# Altium schematic symbol library H204.SCHLIB: 35 symbols
Pins are listed as number, name and electrical type; pins without a type are passive.

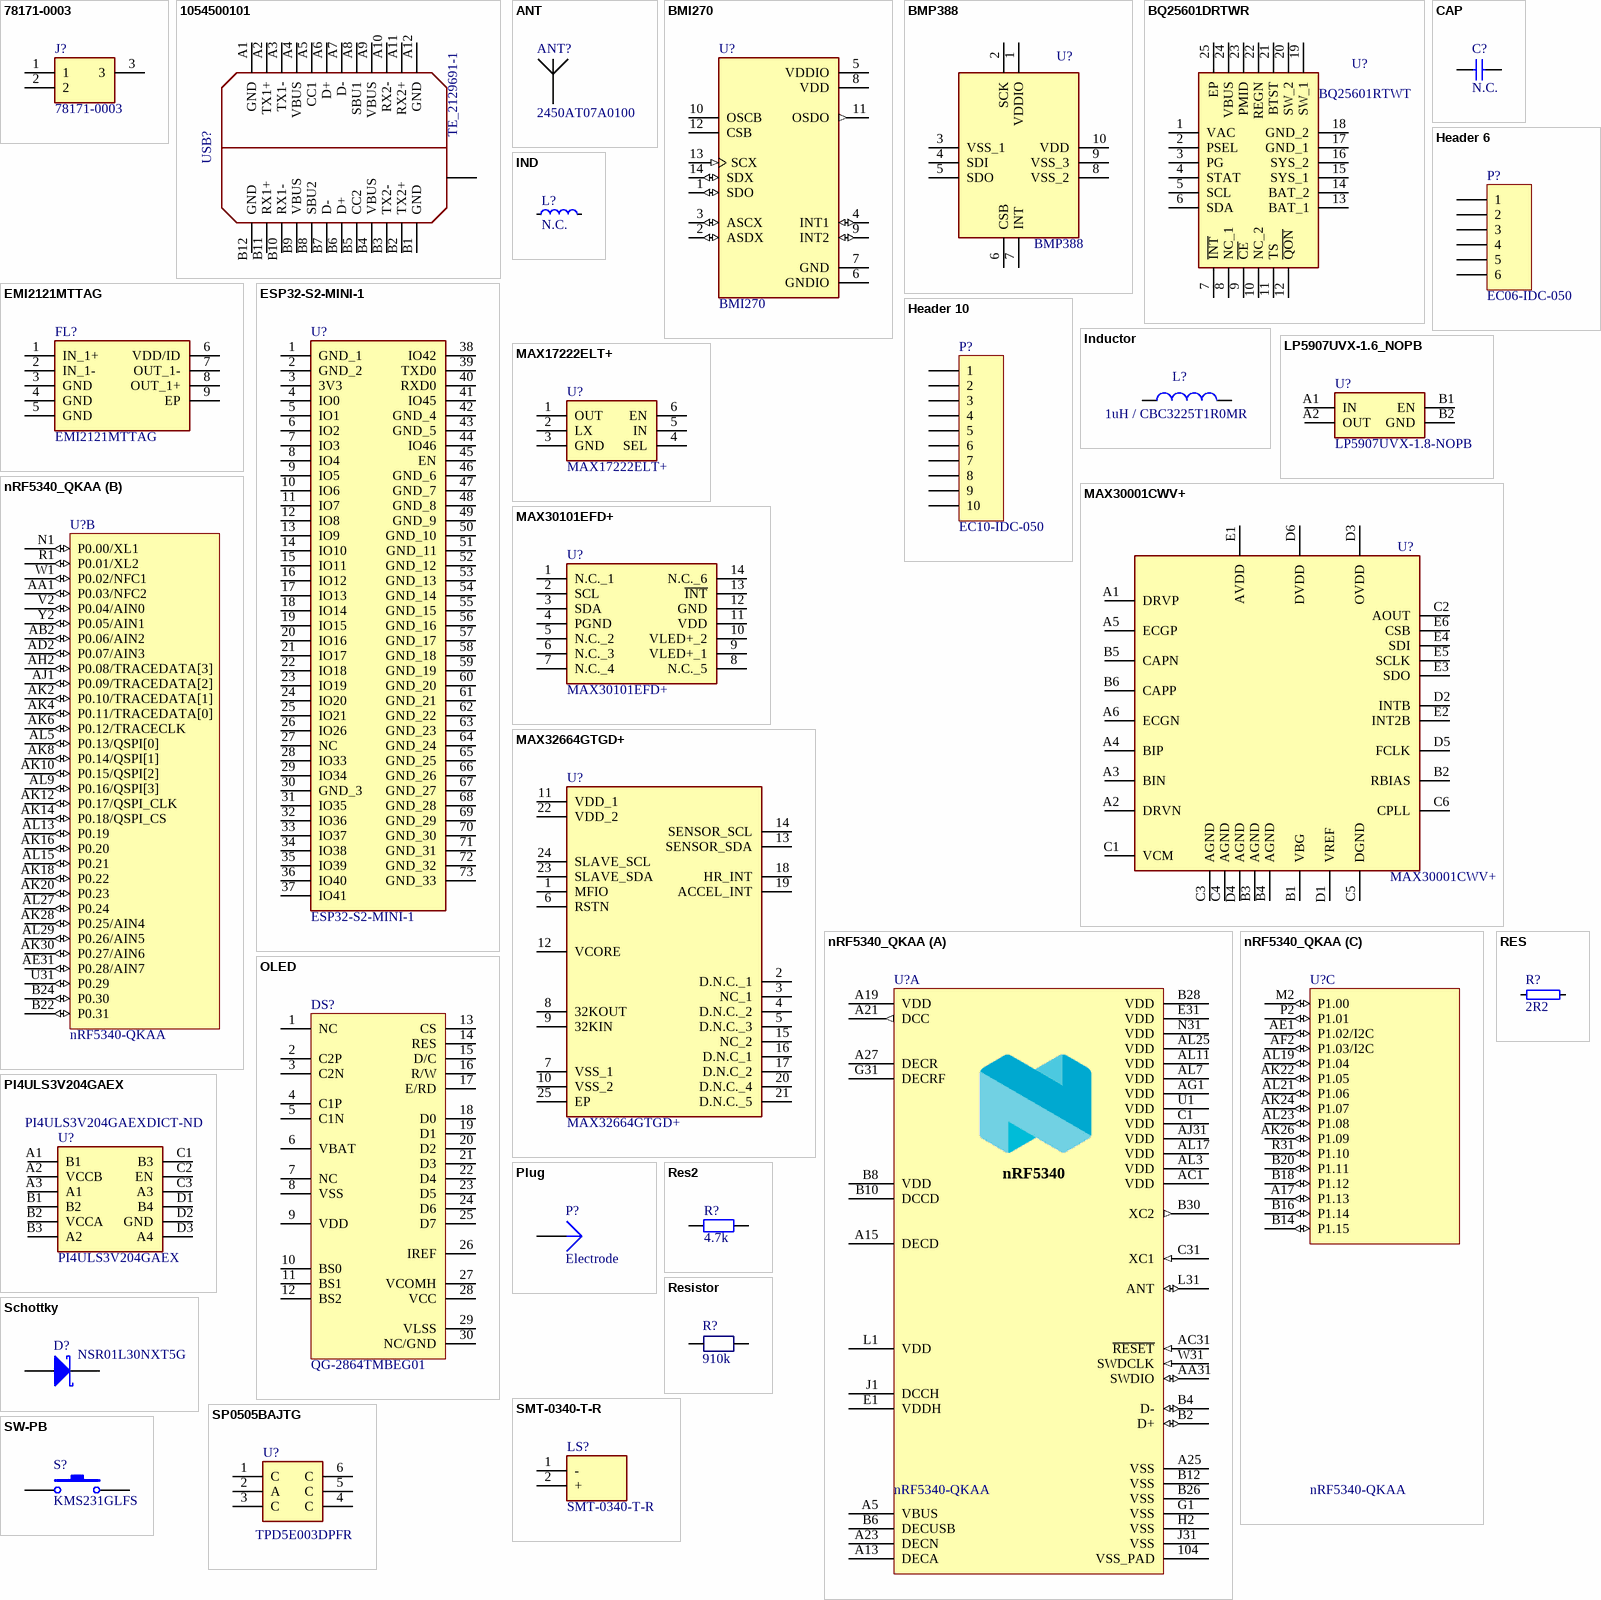
[diagram p0: symbols 78171-0003 to SW-PB]

## 78171-0003
designator J?
Conn Wire to Board HDR 3 POS 1.2mm Solder ST SMD Embossed T/R; Manufacturer_Name: Molex; Number of Contacts: 3; Contact Resistance: 20mR; Max Voltage Rating (DC): 5.05kV; Max Voltage Rating (AC): 50V; Current Rating: 1.5A; Gender: Male; Glow Wire Compliant: Non-compliant; Datasheet Link: http://docs-emea.rs-online.com/webdocs/150e/0900766b8150e2fd.pdf; Manufacturer_Part_Number: 78171-0003; Mouser Part Number: 538-78171-0003; Mouser Price/Stock: https://www.mouser.co.uk/ProductDetail/Molex/78171-0003?qs=rg3U%2F5nEhHfwDfjly946YA%3D%3D; Supplier 1: Digi-Key; Supplier Part Number 1: WM5409CT-ND; Manufacturer: Molex; Manufacturer Part Number: 78171-0003; RoHS: Yes; Category: Headers and Wire Housings; Pricing 1: 1=0,40000, 10=0,32100, 100=0,23540, 1000=0,18724 (USD); Mount: Surface Mount; Contact Plating: Gold; Contact Material: Copper Alloy,Copper; Housing Color: Black; Housing Material: Polymer; Min Operating Temperature: -25°C; Max Operating Temperature: 85°C; Number of Rows: 1; Termination: Solder; Packaging: Tape and Reel; Number of Positions: 3; Orientation: Vertical; Series: Pico-Ezmate; Voltage Rating: 50V; Contact Gender: Male; Package Quantity: 4500; Voltage Rating (AC): 50V; Number of Circuits: 3; Length: 5.4mm; Pitch: 1.2mm; Depth: 4.5mm; Radiation Hardening: No; RoHS Compliant: Yes; REACH SVHC: Unknown; Halogen Free: Low Halogen; ComponentLink1URL: https://datasheet.ciiva.com/22680/1701259-22680435.pdf?src-supplier=Element14; ComponentLink1Description: https://datasheet.ciiva.com/22680/1701259-22680435.pdf?src-supplier=Element14; ComponentLink2URL: https://datasheet.ciiva.com/5152/0781710003-pcb-headers-152538-5152745.pdf?src-supplier=Mouser; ComponentLink2Description: https://datasheet.ciiva.com/5152/0781710003-pcb-headers-152538-5152745.pdf?src-supplier=Mouser; ComponentLink3URL: https://datasheet.ciiva.com/11746/0900766b80dca492-11746471.pdf?src-supplier=RSComponents; ComponentLink3Description: https://datasheet.ciiva.com/11746/0900766b80dca492-11746471.pdf?src-supplier=RSComponents; ComponentLink4URL: https://datasheet.ciiva.com/16108/16720781710003-pcb-headers-16108033.pdf?src-supplier=Onlinecomponents.com; ComponentLink4Description: https://datasheet.ciiva.com/16108/16720781710003-pcb-headers-16108033.pdf?src-supplier=Onlinecomponents.com; ComponentLink5URL: https://datasheet.ciiva.com/30073/92470781710003-pcb-headers-30073464.pdf?src-supplier=Onlinecomponents.com; ComponentLink5Description: https://datasheet.ciiva.com/30073/92470781710003-pcb-headers-30073464.pdf?src-supplier=Onlinecomponents.com; ComponentLink6URL: https://datasheet.ciiva.com/10088/0781710003-pcb-headers-10088254.pdf?src-supplier=Avnet; ComponentLink6Description: https://datasheet.ciiva.com/10088/0781710003-pcb-headers-10088254.pdf?src-supplier=Avnet; ComponentLink7URL: https://datasheet.ciiva.com/16737/0781710003-pcb-headers-16737007.pdf?src-supplier=Avnet+Europe; ComponentLink7Description: https://datasheet.ciiva.com/16737/0781710003-pcb-headers-16737007.pdf?src-supplier=Avnet+Europe
footprint 78171-0003
pins: 1, 2, 3

## 1054500101
designator USB?, comment TE_2129691-1
TE CONNECTIVITY         2129691-1             USB, 3.1 TYPE C, 24POS, RCPT, SMT/TH; Manufacturer: TE Connectivity AMP; Plating: Bright; Gender: Receptacle; Number of Ports: 1; USB Standard: USB 3.1; Contact Current Rating: 5A; Circuit Application: Signal; Connector System: Cable-to-Board; Number of Positions: 24; Plating Thickness: 0.75um; Pitch: 0.5mm; Supplier 1: Digi-Key; Supplier Part Number 1: A122008DKR-ND; Manufacturer Part Number: 2129691-1; RoHS: Yes; Category: Connectors; Pricing 1: 1=2,89000, 10=2,77000, 25=2,53880, 50=2,42340, 100=2,30810, 250=2,01956, 500=1,96186 (USD); Mount: Surface Mount; Number of Pins: 24; Contact Material: Copper Alloy; Contact Plating: Gold; Housing Color: Black; Housing Material: Thermoplastic; Min Operating Temperature: -30°C; Max Operating Temperature: 85°C; Orientation: Right Angle; Packaging: Tape and Reel; Termination: Solder; Connector Type: Receptacle; Length: 12.35mm; REACH SVHC: Unknown; Lead Free: Lead Free; RoHS Compliant: Yes; ComponentLink1URL: http://www.farnell.com/datasheets/1993946.pdf?src-supplier=Farnell; ComponentLink1Description: http://www.farnell.com/datasheets/1993946.pdf?src-supplier=Farnell; ComponentLink2URL: https://media.digikey.com/pdf/Data%20Sheets/Tyco%20Electonics%20AMP%20PDFs/2129691_Dwg.pdf?src-supplier=Digi-Key; ComponentLink2Description: https://media.digikey.com/pdf/Data%20Sheets/Tyco%20Electonics%20AMP%20PDFs/2129691_Dwg.pdf?src-supplier=Digi-Key; ComponentLink3URL: http://www.farnell.com/datasheets/2292385.pdf?src-supplier=Farnell; ComponentLink3Description: http://www.farnell.com/datasheets/2292385.pdf?src-supplier=Farnell; ComponentLink4URL: http://www.alliedelec.com/images/products/datasheets/bm/TE_Connectivity/70718395.pdf?src-supplier=Allied+Electronics; ComponentLink4Description: http://www.alliedelec.com/images/products/datasheets/bm/TE_Connectivity/70718395.pdf?src-supplier=Allied+Electronics; ComponentLink5URL: http://www.farnell.com/cad/1993947.pdf?src-supplier=Element14; ComponentLink5Description: http://www.farnell.com/cad/1993947.pdf?src-supplier=Element14; ComponentLink6URL: http://www.farnell.com/datasheets/1993946.pdf?src-supplier=Element14; ComponentLink6Description: http://www.farnell.com/datasheets/1993946.pdf?src-supplier=Element14; ComponentLink7URL: http://www.farnell.com/datasheets/2292385.pdf?src-supplier=Newark; ComponentLink7Description: http://www.farnell.com/datasheets/2292385.pdf?src-supplier=Newark; ComponentLink8URL: http://www.te.com/commerce/DocumentDelivery/DDEController?Action=showdoc&DocId=Customer+Drawing%7F2129691%7F6%7Fpdf%7FEnglish%7FENG_CD_2129691_6.pdf%7F2129691-1&src-supplier=Avnet; ComponentLink8Description: http://www.te.com/commerce/DocumentDelivery/DDEController?Action=showdoc&DocId=Customer+Drawing%7F2129691%7F6%7Fpdf%7FEnglish%7FENG_CD_2129691_6.pdf%7F2129691-1&src-supplier=Avnet
footprint TE_2129691-1
pins: A1 GND, A2 TX1+, A3 TX1-, A4 VBUS, A5 CC1, A6 D+, A7 D-, A8 SBU1, A9 VBUS, A10 RX2-, A11 RX2+, A12 GND, B1 GND, B2 TX2+, B3 TX2-, B4 VBUS, B5 CC2, B6 D+, B7 D-, B8 SBU2, B9 VBUS, B10 RX1-, B11 RX1+, B12 GND, SH

## ANT
designator ANT?, comment 2450AT07A0100
Antennas 2.4GHz CHIP ANTENNA ULTRA MINI 0.37mm; Manufacturer: Johanson; Manufacturer Part Number: 2450AT07A0100T; Impedance: 50R; Power Rating: 2W; Number of Bands: 1; Return Loss: -6.5dB; Gain: -1.5dB; Supplier 1: Digi-Key; Supplier Part Number 1: 712-1572-1-ND; RoHS: No; Category: RF Antennas; Stock 1: 290006; Pricing 1: 1=0,62000, 10=0,54400, 25=0,51160, 100=0,41740, 250=0,38776, 500=0,33000, 1000=0,26400, 2500=0,24750 (USD); Mount: Surface Mount; Case/Package: 0402; Packaging: Tape and Reel; Package Quantity: 10000; Max Power Dissipation: 2W; Termination: Solder; Frequency: 2.4GHz; Series: -; Length: 1mm; Width: 0.5mm; Height: 0.015inch; RoHS Compliant: No; ComponentLink1URL: https://datasheet.ciiva.com/24073/antenna-2450at07a0100-v5-242421-24073130.pdf?src-supplier=Mouser; ComponentLink1Description: https://datasheet.ciiva.com/24073/antenna-2450at07a0100-v5-242421-24073130.pdf?src-supplier=Mouser
footprint 2450AT07A0100 (2.4GHz Bluetooth, WLAN, Zigbee™ Chip RF Antenna 2.4GHz ~ 2.48GHz -2dBi Solder Surface Mount)
pins: 1, 2 hidden to GND

## BMI270
designator U?
BMI270 Series 3.6 V 685 µA Smart Ultra-low Power Inertial Measurement Unit; Manufacturer: Bosch Sensortec; Supplier 1: Digi-Key; Supplier Part Number 1: 828-1091-1-ND; Manufacturer Part Number: BMI270; RoHS: No
footprint XDCR_BMI270
pins: 1 SDO (io), 2 ASDX (io), 3 ASCX (io), 4 INT1 (io), 5 VDDIO (power), 6 GNDIO (power), 7 GND (power), 8 VDD (power), 9 INT2 (io), 10 OSCB, 11 OSDO (out), 12 CSB, 13 SCX (in), 14 SDX (io)

## BMP388
designator U?
Pressure Sensor 30kPa to 125kPa Absolute 10-Pin LGA; Manufacturer: Bosch Sensortec; Output Type: SPI,I2C; Operating Pressure: 18.13PSI; Port Style: No Port; Drain to Source Voltage (Vdss): 30V; Continuous Drain Current (ID): 4A; Rds On Max: 50mR; Input Capacitance: 645pF; Max Power Dissipation: 1.4W; Capacitance: 4.7uF; Tolerance: 20%; Voltage Rating: 16V; Supplier 1: Digi-Key; Supplier Part Number 1: 828-1079-1-ND; Manufacturer Part Number: BMP388; RoHS: No; Category: Pressure Sensors; Pricing 1: 1=3,990000, 5=3,520000, 10=3,108000, 25=2,522000, 50=2,228800, 100=2,170000 (USD); Mount: Surface Mount; Case/Package: LGA; Number of Pins: 10; Case Code (Imperial): 0805; Case Code (Metric): 2012; Min Operating Temperature: -55°C; Max Operating Temperature: 150°C; Features: Soft Termination; Pressure Type: Absolute; Termination: SMD/SMT; Packaging: Tape and Reel; Ratings: AEC-Q200; ComponentLink1URL: https://ae-bst.resource.bosch.com/media/_tech/media/datasheets/BST-BMP388-DS001.pdf?src-supplier=Digi-Key; ComponentLink1Description: https://ae-bst.resource.bosch.com/media/_tech/media/datasheets/BST-BMP388-DS001.pdf?src-supplier=Digi-Key; ComponentLink2URL: https://ae-bst.resource.bosch.com/media/_tech/media/product_flyer/BST-BMP388-FL000-00.pdf?src-supplier=Digi-Key; ComponentLink2Description: https://ae-bst.resource.bosch.com/media/_tech/media/product_flyer/BST-BMP388-FL000-00.pdf?src-supplier=Digi-Key; ComponentLink3URL: https://ae-bst.resource.bosch.com/media/_tech/media/application_notes/BST-BMP380-HS000.pdf?src-supplier=Digi-Key; ComponentLink3Description: https://ae-bst.resource.bosch.com/media/_tech/media/application_notes/BST-BMP380-HS000.pdf?src-supplier=Digi-Key
footprint BMP388
pins: 1 VDDIO, 2 SCK, 3 VSS_1, 4 SDI, 5 SDO, 6 CSB, 7 INT, 8 VSS_2, 9 VSS_3, 10 VDD

## BQ25601DRTWR
designator U?, comment BQ25601RTWT
IC BATTERY CHARGER LION 24WQFN; Manufacturer: Texas Instruments; Number of Cells: 1; Fault Protection: Over Voltage,Over Temperature; Interface: I2C; Max Charge Current: 3A; Battery Pack Voltage: 4.2V; Max Supply Voltage: 13.5V; Supplier 1: Digi-Key; Supplier Part Number 1: 296-46558-1-ND; Manufacturer Part Number: BQ25601RTWT; RoHS: Yes; Category: Power Management ICs; Pricing 1: 1=3,88000, 10=3,48700, 25=3,29600, 100=2,85660 (USD); Min Operating Temperature: -40°C; Max Operating Temperature: 85°C; Packaging: Tape and Reel; RoHS Compliant: Yes; ComponentLink1URL: http://www.ti.com/lit/ds/symlink/bq25601.pdf?src-supplier=Digi-Key; ComponentLink1Description: http://www.ti.com/lit/ds/symlink/bq25601.pdf?src-supplier=Digi-Key; ComponentLink2URL: http://www.ti.com/lit/ds/symlink/bq25601.pdf?src-supplier=Farnell; ComponentLink2Description: http://www.ti.com/lit/ds/symlink/bq25601.pdf?src-supplier=Farnell; ComponentLink3URL: http://www.ti.com/lit/ds/symlink/bq25601.pdf?src-supplier=Newark; ComponentLink3Description: http://www.ti.com/lit/ds/symlink/bq25601.pdf?src-supplier=Newark
footprint QFN50P400X400X80-25N-D
pins: 1 VAC, 2 PSEL, 3 PG, 4 STAT, 5 SCL, 6 SDA, 7 ~{INT}, 8 NC_1, 9 ~{CE}, 10 NC_2, 11 TS, 12 ~{QON}, 13 BAT_1, 14 BAT_2, 15 SYS_1, 16 SYS_2, 17 GND_1, 18 GND_2, 19 SW_1, 20 SW_2, 21 BTST, 22 REGN, 23 PMID, 24 VBUS, 25 EP

## CAP
designator C?, comment N.C.
Capacitor, NP0, ±0.1pF; Value: N.C.
footprint CAPC0603X33N (Chip Capacitor, Body 0.6x0.30mm, IPC Medium Density)
footprint CAPC1005X55N
pins: 1, 2

## EMI2121MTTAG
designator FL?
ON SEMICONDUCTOR - EMI2121MTTAG - Common Mode Filter, USB 2.0, WDFN-8; Number of Lines: 3; DC Resistance (DCR): 8R; Max Current Rating: 100mA; Capacitance: 1.3pF; Voltage Rating: 9V; Direction: Bidirectional; ESD Protection: Yes; Assembly: Rechargeable; Supplier 1: Digi-Key; Supplier Part Number 1: EMI2121MTTAGOSCT-ND; Manufacturer: ON Semiconductor; Manufacturer Part Number: EMI2121MTTAG; RoHS: Yes; Category: Common Mode Chokes; Stock 1: 14076; Pricing 1: 1=1,01000, 10=0,89900, 25=0,85320, 100=0,70090, 250=0,65520, 500=0,57902, 1000=0,50312 (USD); Number of Pins: 8; Min Operating Temperature: -40°C; Max Operating Temperature: 85°C; Packaging: Tape and Reel; Package Quantity: 1; Current: 100mA; Termination: Flat; Current Rating: 100mA; Max DC Current: 100mA; Series: -; DC Resistance-Max: 8R; Length: 2.2mm; Width: 0.079inch; Height: 0.031inch; Depth: 2mm; Lead Free: Lead Free; Halogen Free: Halogen Free; RoHS Compliant: Yes; REACH SVHC: No SVHC; ComponentLink1URL: https://datasheet.ciiva.com/6214/emi2121mt-d-6214625.pdf?src-supplier=Digi-Key; ComponentLink1Description: https://datasheet.ciiva.com/6214/emi2121mt-d-6214625.pdf?src-supplier=Digi-Key; ComponentLink2URL: https://datasheet.ciiva.com/12394/emi2121mt-d-72518-12394918.pdf?src-supplier=Mouser; ComponentLink2Description: https://datasheet.ciiva.com/12394/emi2121mt-d-72518-12394918.pdf?src-supplier=Mouser; ComponentLink3URL: https://datasheet.ciiva.com/3067/emi2121mt-d-3067884.pdf?src-supplier=Avnet; ComponentLink3Description: https://datasheet.ciiva.com/3067/emi2121mt-d-3067884.pdf?src-supplier=Avnet; ComponentLink4URL: https://datasheet.ciiva.com/6214/emi2121mt-d-6214619.pdf?src-supplier=Digi-Key; ComponentLink4Description: https://datasheet.ciiva.com/6214/emi2121mt-d-6214619.pdf?src-supplier=Digi-Key; ComponentLink5URL: https://datasheet.ciiva.com/15162/getdatasheetpartid-686641-15162525.pdf?src-supplier=Verical; ComponentLink5Description: https://datasheet.ciiva.com/15162/getdatasheetpartid-686641-15162525.pdf?src-supplier=Verical; ComponentLink6URL: https://datasheet.ciiva.com/16437/emi2121mt-d-16437709.pdf?src-supplier=Future+Electronics; ComponentLink6Description: https://datasheet.ciiva.com/16437/emi2121mt-d-16437709.pdf?src-supplier=Future+Electronics; ComponentLink7URL: https://datasheet.ciiva.com/6214/emi2121mt-d-6214622.pdf?src-supplier=Digi-Key; ComponentLink7Description: https://datasheet.ciiva.com/6214/emi2121mt-d-6214622.pdf?src-supplier=Digi-Key
footprint EMI2121MTTAG (Footprint not found)
pins: 1 IN_1+, 2 IN_1-, 3 GND, 4 GND, 5 GND, 6 VDD/ID, 7 OUT_1-, 8 OUT_1+, 9 EP

## ESP32-S2-MINI-1
designator U?
SMD Module W/pcb Antenna; Manufacturer_Name: Espressif Systems; Manufacturer Part Number: ESP32-S2-MINI-1-N4; Datasheet Link: https://www.espressif.com/sites/default/files/documentation/esp32-s2-mini-1_esp32-s2-mini-1u_datasheet_en.pdf; Height: 2.65mm; Manufacturer_Part_Number: ESP32-S2-MINI-1; Mouser Part Number: 356-ESP32-S2-MINI-1; Mouser Price/Stock: https://www.mouser.co.uk/ProductDetail/Espressif-Systems/ESP32-S2-MINI-1?qs=DPoM0jnrROXX974%252BTWoceA%3D%3D; Supplier 1: Digi-Key; Supplier Part Number 1: 1965-ESP32-S2-MINI-1-N4-ND; Manufacturer: Espressif Systems; Pricing 1: 1=2,18000 (USD)
footprint ESP32S2MINI1
pins: 1 GND_1, 2 GND_2, 3 3V3, 4 IO0, 5 IO1, 6 IO2, 7 IO3, 8 IO4, 9 IO5, 10 IO6, 11 IO7, 12 IO8, 13 IO9, 14 IO10, 15 IO11, 16 IO12, 17 IO13, 18 IO14, 19 IO15, 20 IO16, 21 IO17, 22 IO18, 23 IO19, 24 IO20, 25 IO21, 26 IO26, 27 NC, 28 IO33, 29 IO34, 30 GND_3, 31 IO35, 32 IO36, 33 IO37, 34 IO38, 35 IO39, 36 IO40, 37 IO41, 38 IO42, 39 TXD0, 40 RXD0, 41 IO45, 42 GND_4, 43 GND_5, 44 IO46, 45 EN, 46 GND_6, 47 GND_7, 48 GND_8, 49 GND_9, 50 GND_10, 51 GND_11, 52 GND_12, 53 GND_13, 54 GND_14, 55 GND_15, 56 GND_16, 57 GND_17, 58 GND_18, 59 GND_19, 60 GND_20, 61 GND_21, 62 GND_22, 63 GND_23, 64 GND_24, 65 GND_25, 66 GND_26, 67 GND_27, 68 GND_28, 69 GND_29, 70 GND_30, 71 GND_31, 72 GND_32, 73 GND_33

## Header 6
designator P?, comment EC06-IDC-050
Header, 6-Pin
footprint EC06-IDC-050 (Footprint not found)
signal-integrity model Connector
pins: 1, 2, 3, 4, 5, 6

## Header 10
designator P?, comment EC10-IDC-050
Header, 10-Pin
footprint EC10-IDC-050 (Footprint not found)
signal-integrity model Connector
pins: 1, 2, 3, 4, 5, 6, 7, 8, 9, 10

## IND
designator L?, comment N.C.
Inductor, 190mA, ±0.1nH; Value: N.C.
footprint INDC0603X33N (Chip Inductor, 2-Leads, EIA 0201, Metric 0603, Body 0,60x0,30mm, IPC Medium Density)
pins: 1, 2

## Inductor
designator L?, comment 1uH / CBC3225T1R0MR
Inductor Power Chip Wirewound 1uH 20% 100KHz Ferrite 1.44A 71.5mOhm DCR 1210 T/R; Manufacturer: Taiyo Yuden; Manufacturer Part Number: CBC3225T2R2MR; Inductance: 2.2uH; DC Resistance (DCR): 104mR; Max DC Current: 1.13A; Self Resonant Frequency: 190MHz; Shielding: Unshielded; Saturation Current: 2A; Resistance: 0.055R; Supplier 1: Digi-Key; Supplier Part Number 1: 587-1623-1-ND; RoHS: Yes; Category: Fixed Inductors; Stock 1: 14109; Pricing 1: 1=0,30000, 10=0,26800, 25=0,23480, 50=0,20120, 100=0,18450, 250=0,16776, 500=0,15768 (USD); Mount: Surface Mount; Case/Package: 1210; Number of Pins: 2; Case Code (Metric): 3225; Case Code (Imperial): 1210; Core Material: Ferrite; Min Operating Temperature: -40°C; Max Operating Temperature: 105°C; Tolerance: 20%; Packaging: Tape and Reel; Test Frequency: 100kHz; Termination: SMD/SMT; Current Rating: 1.13A; Package Quantity: 1000; Resistor Type: Wirewound; Series: CB; Inductance Tolerance: 20%; Length: 0.126inch; Width: 0.098inch; Height: 2.5mm; Height - Seated (Max): 0.106inch; RoHS Compliant: Yes; Lead Free: Lead Free; REACH SVHC: Unknown; Halogen Free: Halogen Free; ComponentLink1URL: https://datasheet.ciiva.com/6701/cbc3225t2r2mr-ss-6701089.pdf?src-supplier=Digi-Key; ComponentLink1Description: https://datasheet.ciiva.com/6701/cbc3225t2r2mr-ss-6701089.pdf?src-supplier=Digi-Key; ComponentLink2URL: https://datasheet.ciiva.com/15981/1309cbc3225t2r2mr-15981708.pdf?src-supplier=Onlinecomponents.com; ComponentLink2Description: https://datasheet.ciiva.com/15981/1309cbc3225t2r2mr-15981708.pdf?src-supplier=Onlinecomponents.com; ComponentLink3URL: https://datasheet.ciiva.com/8505/cbc3225t2r2mr-ss-8505613.pdf?src-supplier=Avnet; ComponentLink3Description: https://datasheet.ciiva.com/8505/cbc3225t2r2mr-ss-8505613.pdf?src-supplier=Avnet; Supplier 2: Digi-Key; Supplier Part Number 2: 587-1622-1-ND; Stock 2: 19038; Pricing 2: 1=0,30000, 10=0,26800, 25=0,23480, 50=0,20120, 100=0,18450, 250=0,16776, 500=0,15768 (USD); Inductor Type: POWER; ComponentLink4URL: https://datasheet.ciiva.com/8505/cbc3225t1r0mr-ss-8505606.pdf?src-supplier=Avnet; ComponentLink4Description: https://datasheet.ciiva.com/8505/cbc3225t1r0mr-ss-8505606.pdf?src-supplier=Avnet; ComponentLink5URL: https://datasheet.ciiva.com/1040/cbc3225t1r0mr-ss-1040872.pdf?src-supplier=Digi-Key; ComponentLink5Description: https://datasheet.ciiva.com/1040/cbc3225t1r0mr-ss-1040872.pdf?src-supplier=Digi-Key
footprint INDM3225X210N (Inductor, Molded Body; 3.20mm L X 2.50mm W, IPC Medium Density)
pins: 1, 2

## LP5907UVX-1.6_NOPB
designator U?, comment LP5907UVX-1.8-NOPB
IC REG LINEAR 1.8V 250MA 4DSBGA; Manufacturer: Texas Instruments; Manufacturer Part Number: LP5907UVX-1.8/NOPB; Number of Outputs: 1; Min Input Voltage: 2.2V; Max Input Voltage: 5.5V; Polarity: Positive; Quiescent Current: 25uA; Accuracy: 2%; Dropout Voltage: 50mV; Output Type: Fixed; Supplier 1: Digi-Key; Supplier Part Number 1: 296-35634-1-ND; RoHS: Yes; Category: Voltage Regulators - Linear; Pricing 1: 1=0,69000, 10=0,59200, 25=0,55280, 100=0,44220, 250=0,41064, 500=0,34746, 1000=0,26850 (USD); Mount: Surface Mount; Case/Package: SMD/SMT; Min Operating Temperature: -40°C; Max Operating Temperature: 125°C; Package Quantity: 3000; Packaging: Tape and Reel; Max Output Current: 250mA; Output Voltage: 1.8V; Radiation Hardening: No; Lead Free: Lead Free; RoHS Compliant: Yes; ComponentLink1URL: https://datasheet.ciiva.com/6597/lp5907-6597398.pdf?src-supplier=Digi-Key; ComponentLink1Description: https://datasheet.ciiva.com/6597/lp5907-6597398.pdf?src-supplier=Digi-Key; ComponentLink2URL: https://datasheet.ciiva.com/14278/lp5907-14278557.pdf?src-supplier=Avnet; ComponentLink2Description: https://datasheet.ciiva.com/14278/lp5907-14278557.pdf?src-supplier=Avnet
footprint BGA4C35P2X2_64X64X44
pins: A1 IN, A2 OUT, B1 EN, B2 GND

## MAX17222ELT+
designator U?
Conv DC-DC Single Step Up 0.4V to 5.5V 6-Pin uDFN Cut Tape; Manufacturer_Name: Maxim Integrated; Manufacturer: Maxim; Topology: Boost; Output Type: Adjustable; Output Configuration: Positive; Number of Outputs: 1; Min Input Voltage: 400mV; Min Output Voltage: 1.8V; Max Output Voltage: 5V; Output Current: 500mA; Switching Frequency: 2.5MHz; Synchronous Rectifier: Yes; Datasheet Link: https://pdfserv.maximintegrated.com/package_dwgs/21-0164.PDF; Height: 0.8mm; Manufacturer_Part_Number: MAX17222ELT+; Mouser Part Number: 700-MAX17222ELT+; Mouser Price/Stock: https://www.mouser.co.uk/ProductDetail/Maxim-Integrated/MAX17222ELT%2b?qs=5HRuLjoIg%2FFT2yPfIoCzoQ%3D%3D; Supplier 1: Digi-Key; Supplier Part Number 1: MAX17222ELT+-ND; Manufacturer Part Number: MAX17222ELT+; RoHS: Yes; Category: Voltage Regulators - Switching; Number of Pins: 6; Min Operating Temperature: -40°C; Max Operating Temperature: 85°C; Packaging: Rail/Tube; Max Input Voltage: 5.5V; RoHS Compliant: Yes; ComponentLink1URL: http://www.farnell.com/datasheets/2236349.pdf?src-supplier=Farnell; ComponentLink1Description: http://www.farnell.com/datasheets/2236349.pdf?src-supplier=Farnell; ComponentLink2URL: https://datasheets.maximintegrated.com/en/ds/MAX17220-MAX17225.pdf?src-supplier=Digi-Key; ComponentLink2Description: https://datasheets.maximintegrated.com/en/ds/MAX17220-MAX17225.pdf?src-supplier=Digi-Key
footprint MAX17220ALT
pins: 1 OUT, 2 LX, 3 GND, 4 SEL, 5 IN, 6 EN

## MAX30001CWV+
designator U?
Biopotential/bioz Afe, WLP-30; Manufacturer_Name: Maxim Integrated; Manufacturer: Maxim; Datasheet Link: https://datasheets.maximintegrated.com/en/ds/MAX30001.pdf; Height: 0.69mm; Manufacturer_Part_Number: MAX30001CWV+; Mouser Part Number: 700-MAX30001CWV+; Mouser Price/Stock: https://www.mouser.co.uk/ProductDetail/Maxim-Integrated/MAX30001CWV%2b?qs=gt1LBUVyoHlQ9wjGIPyD2Q%3D%3D; Supplier 1: Digi-Key; Supplier Part Number 1: MAX30001CWV+-ND; Manufacturer Part Number: MAX30001CWV+; RoHS: Yes; Category: Sensors; Stock 1: 1; Pricing 1: 1=9,16000 (USD); RoHS Compliant: Yes
footprint BGA30C50P6X5_293X274X69
pins: A1 DRVP, A2 DRVN, A3 BIN, A4 BIP, A5 ECGP, A6 ECGN, B1 VBG, B2 RBIAS, B3 AGND, B4 AGND, B5 CAPN, B6 CAPP, C1 VCM, C2 AOUT, C3 AGND, C4 AGND, C5 DGND, C6 CPLL, D1 VREF, D2 INTB, D3 OVDD, D4 AGND, D5 FCLK, D6 DVDD, E1 AVDD, E2 INT2B, E3 SDO, E4 SDI, E5 SCLK, E6 CSB

## MAX30101EFD+
designator U?
Analog Circuit, 1 Func; Manufacturer: Maxim; Min Supply Voltage: 1.7V; Max Supply Voltage: 2V; Supplier 1: Digi-Key; Supplier Part Number 1: MAX30101EFD+-ND; Manufacturer Part Number: MAX30101EFD+; RoHS: Yes; Category: Sensors; Stock 1: 3923; Pricing 1: 1=8,97000, 10=8,10600, 25=7,72840, 364=6,40901, 728=5,84350, 1092=5,08950 (USD); Number of Pins: 14; Min Operating Temperature: -40°C; Max Operating Temperature: 85°C; REACH SVHC: No SVHC; ComponentLink1URL: http://www.farnell.com/datasheets/2064242.pdf?src-supplier=Farnell; ComponentLink1Description: http://www.farnell.com/datasheets/2064242.pdf?src-supplier=Farnell; ComponentLink2URL: http://www.farnell.com/datasheets/2064242.pdf?src-supplier=Element14; ComponentLink2Description: http://www.farnell.com/datasheets/2064242.pdf?src-supplier=Element14; ComponentLink3URL: https://datasheets.maximintegrated.com/en/ds/MAX30101.pdf?src-supplier=Digi-Key; ComponentLink3Description: https://datasheets.maximintegrated.com/en/ds/MAX30101.pdf?src-supplier=Digi-Key; ComponentLink4URL: http://datasheets.maximintegrated.com/en/ds/MAX30101.pdf?src-supplier=Newark; ComponentLink4Description: http://datasheets.maximintegrated.com/en/ds/MAX30101.pdf?src-supplier=Newark; ComponentLink5URL: http://datasheets.maximintegrated.com/en/ds/MAX30101.pdf?src-supplier=Mouser; ComponentLink5Description: http://datasheets.maximintegrated.com/en/ds/MAX30101.pdf?src-supplier=Mouser; ComponentLink6URL: http://datasheets.maximintegrated.com/en/ds/MAX30101.pdf?src-supplier=Avnet+Europe; ComponentLink6Description: http://datasheets.maximintegrated.com/en/ds/MAX30101.pdf?src-supplier=Avnet+Europe; ComponentLink7URL: http://datasheets.maximintegrated.com/en/ds/MAX30101.pdf?src-supplier=Avnet; ComponentLink7Description: http://datasheets.maximintegrated.com/en/ds/MAX30101.pdf?src-supplier=Avnet; ComponentLink8URL: http://datasheets.maximintegrated.com/en/ds/MAX30101.pdf?src-supplier=Component+Sense; ComponentLink8Description: http://datasheets.maximintegrated.com/en/ds/MAX30101.pdf?src-supplier=Component+Sense
footprint 14-LEAD-OESIP
pins: 1 N.C._1, 2 SCL, 3 SDA, 4 PGND, 5 N.C._2, 6 N.C._3, 7 N.C._4, 8 N.C._5, 9 VLED+_1, 10 VLED+_2, 11 VDD, 12 GND, 13 ~{INT}, 14 N.C._6

## MAX32664GTGD+
designator U?
Integrated Circuit; Manufacturer: Maxim; Supplier 1: Digi-Key; Supplier Part Number 1: 175-MAX32664GTGD+-ND; Manufacturer Part Number: MAX32664GTGD+; RoHS: Yes; Pricing 1: 490=4,49196 (USD)
footprint MAX32664GTGD
pins: 1 MFIO, 2 D.N.C._1, 3 NC_1, 4 D.N.C._2, 5 D.N.C._3, 6 RSTN, 7 VSS_1, 8 32KOUT, 9 32KIN, 10 VSS_2, 11 VDD_1, 12 VCORE, 13 SENSOR_SDA, 14 SENSOR_SCL, 15 NC_2, 16 D.N.C_1, 17 D.N.C_2, 18 HR_INT, 19 ACCEL_INT, 20 D.N.C._4, 21 D.N.C._5, 22 VDD_2, 23 SLAVE_SDA, 24 SLAVE_SCL, 25 EP

## nRF5340_QKAA
designator U?, comment nRF5340-QKAA
SoC 32-Bit ARM Cortex-M33 RISC 128MHz/64MHz Dual Core 256KB/1024KB 94-Pin AQFN T/R; Manufacturer: Nordic Semiconductor; Manufacturer Part Number: NRF5340-QKAA-R; Pad Count: 98; Part Number: nRF5340-QKAA; Footprint Doc: AQFN-98; Value: nRF5340-QKAA; Component Class: nRF_Devices; Supplier 1: Digi-Key; Supplier Part Number 1: 1490-NRF5340-QKAA-RDKR-ND; Category: RF Receivers, Transceivers; Pricing 1: 1=8,66000, 10=7,93800, 25=7,21600, 100=6,49440, 250=5,95320, 500=5,41200, 1000=4,92000 (USD)
footprint AQFN40P700X700X85_HS-99N (Footprint not found)
part A pins: 104 VSS_PAD (power), A5 VBUS (power), A13 DECA (power), A15 DECD (power), A19 VDD (power), A21 DCC (out), A23 DECN (power), A25 VSS (power), A27 DECR (power), AA31 SWDIO (io), AC1 VDD (power), AC31 ~{RESET} (in), AG1 VDD (power), AG31 N.C. hidden, AJ31 VDD (power), AL3 VDD (power), AL7 VDD (power), AL11 VDD (power), AL17 VDD (power), AL25 VDD (power), B2 D+ (io), B4 D- (io), B6 DECUSB (power), B8 VDD (power), B10 DCCD (power), B12 VSS (power), B26 VSS (power), B28 VDD (power), B30 XC2 (out), C1 VDD (power), C31 XC1 (in), D2 N.C. hidden, E1 VDDH (power), E31 VDD (power), F2 N.C. hidden, G1 VSS (power), G31 DECRF (power), H2 VSS (power), J1 DCCH (power), J31 VSS (power), L1 VDD (power), L31 ANT (io), N31 VDD (power), T2 N.C. hidden, U1 VDD (power), W31 SWDCLK (in)
part B pins: AA1 P0.03/NFC2 (io), AB2 P0.06/AIN2 (io), AD2 P0.07/AIN3 (io), AE31 P0.28/AIN7 (io), AH2 P0.08/TRACEDATA[3] (io), AJ1 P0.09/TRACEDATA[2] (io), AK2 P0.10/TRACEDATA[1] (io), AK4 P0.11/TRACEDATA[0] (io), AK6 P0.12/TRACECLK (io), AK8 P0.14/QSPI[1] (io), AK10 P0.15/QSPI[2] (io), AK12 P0.17/QSPI_CLK (io), AK14 P0.18/QSPI_CS (io), AK16 P0.20 (io), AK18 P0.22 (io), AK20 P0.23 (io), AK28 P0.25/AIN4 (io), AK30 P0.27/AIN6 (io), AL5 P0.13/QSPI[0] (io), AL9 P0.16/QSPI[3] (io), AL13 P0.19 (io), AL15 P0.21 (io), AL27 P0.24 (io), AL29 P0.26/AIN5 (io), B22 P0.31 (io), B24 P0.30 (io), N1 P0.00/XL1 (io), R1 P0.01/XL2 (io), U31 P0.29 (io), V2 P0.04/AIN0 (io), W1 P0.02/NFC1 (io), Y2 P0.05/AIN1 (io)
part C pins: A17 P1.13 (io), AE1 P1.02/I2C (io), AF2 P1.03/I2C (io), AK22 P1.05 (io), AK24 P1.07 (io), AK26 P1.09 (io), AL19 P1.04 (io), AL21 P1.06 (io), AL23 P1.08 (io), B14 P1.15 (io), B16 P1.14 (io), B18 P1.12 (io), B20 P1.11 (io), M2 P1.00 (io), P2 P1.01 (io), R31 P1.10 (io)
part A text: nRF5340

## OLED
designator DS?, comment QG-2864TMBEG01
Header, 20-Pin
footprint QG-2864TMBEG01 (Footprint not found)
signal-integrity model Connector
pins: 1 NC, 2 C2P, 3 C2N, 4 C1P, 5 C1N, 6 VBAT, 7 NC, 8 VSS, 9 VDD, 10 BS0, 11 BS1, 12 BS2, 13 CS, 14 RES, 15 D/C, 16 R/W, 17 E/RD, 18 D0, 19 D1, 20 D2, 21 D3, 22 D4, 23 D5, 24 D6, 25 D7, 26 IREF, 27 VCOMH, 28 VCC, 29 VLSS, 30 NC/GND

## PI4ULS3V204GAEX
designator U?  Supplier Part Number 1: PI4ULS3V204GAEXDICT-ND
UNIVERSAL BI-DIRECTIONALEVEL; Manufacturer_Name: Diodes Inc.; Manufacturer: Diodes; Logic Function: Level Shifter; Low Level Output Current: 1mA; High Level Output Current: -20uA; Datasheet Link: https://www.diodes.com/assets/Datasheets/PI4ULS3V204.pdf; Height: 0.625mm; Manufacturer_Part_Number: PI4ULS3V204GAEX; Mouser Part Number: 729-PI4ULS3V204GAEX; Mouser Price/Stock: https://www.mouser.co.uk/ProductDetail/Diodes-Incorporated/PI4ULS3V204GAEX?qs=A65YvgP4j%252BEWb8XHzZsSTA%3D%3D; Arrow Part Number: PI4ULS3V204GAEX; Arrow Price/Stock: https://www.arrow.com/en/products/pi4uls3v204gaex/diodes-incorporated; Supplier 1: Digi-Key; Manufacturer Part Number: PI4ULS3V204GAEX; RoHS: Yes; Category: Integrated Circuits (ICs); Stock 1: 3000; Pricing 1: 1=1,05000, 10=0,93800, 25=0,89040, 100=0,73140, 250=0,68368, 500=0,60420, 1000=0,47700 (USD); Mount: Surface Mount; Min Operating Temperature: -40°C; Max Operating Temperature: 85°C; Packaging: Tape and Reel; Lead Free: Lead Free; RoHS Compliant: Yes; ComponentLink1URL: https://www.diodes.com/assets/Datasheets/PI4ULS3V204.pdf?src-supplier=Digi-Key; ComponentLink1Description: https://www.diodes.com/assets/Datasheets/PI4ULS3V204.pdf?src-supplier=Digi-Key; ComponentLink2URL: https://www.pericom.com/assets/Datasheets/PI4ULS3V204.pdf?src-supplier=Avnet+Asia; ComponentLink2Description: https://www.pericom.com/assets/Datasheets/PI4ULS3V204.pdf?src-supplier=Avnet+Asia
footprint BGA12C50P3X4_137X187X62
pins: A1 B1, A2 VCCB, A3 A1, B1 B2, B2 VCCA, B3 A2, C1 B3, C2 EN, C3 A3, D1 B4, D2 GND, D3 A4

## Plug
designator P?, comment Electrode
Plug; LatestRevisionDate: 17-Jul-2002; LatestRevisionNote: Re-released for DXP Platform.; Publisher: Altium Limited
footprint PIN1 (Connector; Plug)
signal-integrity model Connector
pins: 1

## RES
designator R?, comment 2R2
Res Thick Film 0201 2.2 Ohm 5% 1/20W -100ppm/C to 350ppm/C Molded SMD SMD Paper T/R; Manufacturer: Yageo; Manufacturer Part Number: RC0201JR-072R2L; Resistance: 2.2R; Temperature Coefficient: 350ppm/°C; Power Rating: 50mW; Value: 2R2; ComponentLink1URL: http://www.yageo.com/NewPortal/yageodocoutput?fileName=/pdf/R-Chip/PYu-AC_51_RoHS_L_6.pdf&src-supplier=Digi-Key; ComponentLink1Description: http://www.yageo.com/NewPortal/yageodocoutput?fileName=/pdf/R-Chip/PYu-AC_51_RoHS_L_6.pdf&src-supplier=Digi-Key; Supplier 1: Digi-Key; Supplier Part Number 1: YAG2886CT-ND; RoHS: Yes; Category: Chip SMD Resistors; Stock 1: 194959; Pricing 1: 1=0,10000, 10=0,02900, 100=0,01190, 1000=0,00536, 2500=0,00466, 5000=0,00385 (USD); Case/Package: 0201; Contact Plating: Tin,Matte; Case Code (Metric): 0603; Case Code (Imperial): 0201; Size Code: 0201; Min Operating Temperature: -55°C; Max Operating Temperature: 125°C; Tolerance: 5%; Resistor Type: Thick Film; Packaging: Tape and Reel; Number of Terminations: 2; Max Power Dissipation: 50mW; Features: Moisture Resistant; Series: RC; Length: 0.024inch; Width: 0.012inch; Height: 0.01inch; Radiation Hardening: No; Lead Free: Lead Free; RoHS Compliant: Yes; ComponentLink2URL: https://datasheet.ciiva.com/16855/pyu-rc0201-51-rohs-l-8-16855387.pdf?src-supplier=Avnet+Europe; ComponentLink2Description: https://datasheet.ciiva.com/16855/pyu-rc0201-51-rohs-l-8-16855387.pdf?src-supplier=Avnet+Europe; ComponentLink3URL: https://datasheet.ciiva.com/28415/pyu-rc0201-51-rohs-l-8-28415213.pdf?src-supplier=Avnet+Europe; ComponentLink3Description: https://datasheet.ciiva.com/28415/pyu-rc0201-51-rohs-l-8-28415213.pdf?src-supplier=Avnet+Europe
footprint RESC0603X03L_C
footprint RESC0603X26N
pins: 1, 2

## Res2
designator R?, comment 4.7k
GENERAL 0201 11% REEL (7INCH); Manufacturer: Yageo; Manufacturer Part Number: RC0201FR-074K7L; Resistance: 4.7kR; Tolerance: 1%; Temperature Coefficient: 200ppm/°C; Power Rating: 50mW; Voltage Rating: 25V; Value: 4.7k; Supplier 1: Digi-Key; Supplier Part Number 1: 311-4.70KMCT-ND; RoHS: Yes; Category: Chip SMD Resistors; Stock 1: 638424; Pricing 1: 1=0,10000, 10=0,04200, 100=0,01700, 1000=0,00765, 2500=0,00664, 5000=0,00548 (USD); Case/Package: 0201; Contact Plating: Tin,Matte; Case Code (Metric): 0603; Case Code (Imperial): 0201; Weight: 6E-06oz; Size Code: 0201; Min Operating Temperature: -55°C; Max Operating Temperature: 125°C; Resistor Type: Thick Film; Packaging: Tape and Reel; Package Quantity: 1; Number of Terminations: 2; Termination: SMD/SMT; Max Power Dissipation: 50mW; Features: Moisture Resistant; Series: RC; Resistance Tolerance: 1%; Construction: Rectangular; Length: 0.6mm; Width: 0.012inch; Height: 0.01inch; Depth: 0.3mm; Radiation Hardening: No; REACH SVHC: Unknown; Military Standard: Not; Lead Free: Lead Free; RoHS Compliant: Yes; ComponentLink1URL: https://datasheet.ciiva.com/2493/pyu-r-int-thick-7-2493811.pdf?src-supplier=Digi-Key; ComponentLink1Description: https://datasheet.ciiva.com/2493/pyu-r-int-thick-7-2493811.pdf?src-supplier=Digi-Key; ComponentLink2URL: https://datasheet.ciiva.com/2493/pyu-r-int-thick-7-2493812.pdf?src-supplier=Digi-Key; ComponentLink2Description: https://datasheet.ciiva.com/2493/pyu-r-int-thick-7-2493812.pdf?src-supplier=Digi-Key; ComponentLink3URL: https://datasheet.ciiva.com/2493/pyu-r-int-thick-7-2493813.pdf?src-supplier=Digi-Key; ComponentLink3Description: https://datasheet.ciiva.com/2493/pyu-r-int-thick-7-2493813.pdf?src-supplier=Digi-Key; ComponentLink4URL: https://datasheet.ciiva.com/7672/1563626-7672233.pdf?src-supplier=Element14; ComponentLink4Description: https://datasheet.ciiva.com/7672/1563626-7672233.pdf?src-supplier=Element14; ComponentLink5URL: https://datasheet.ciiva.com/28410/pyu-rc0201-51-rohs-l-8-28410061.pdf?src-supplier=Avnet+Europe; ComponentLink5Description: https://datasheet.ciiva.com/28410/pyu-rc0201-51-rohs-l-8-28410061.pdf?src-supplier=Avnet+Europe; ComponentLink6URL: https://datasheet.ciiva.com/8892/pyu-rc0201-51-rohs-l-8-8892942.pdf?src-supplier=Avnet; ComponentLink6Description: https://datasheet.ciiva.com/8892/pyu-rc0201-51-rohs-l-8-8892942.pdf?src-supplier=Avnet
footprint RESC1608X50N (Chip Resistor, EIA 0603, Metric 1608, Body 1.6x0.8mm, IPC Medium Density)
simulation model RESISTOR (Resistor)
signal-integrity model Res
footprint RESC1608X50N (Chip Resistor, EIA 0603, Metric 1608, Body 1.6x0.8mm, IPC Medium Density)
footprint RESC1005X40N
footprint RESC0603X26N
pins: 1, 2

## Resistor
designator R?, comment 910k
Thick Film Resistors - SMD 910K OHM 1%; Manufacturer: Yageo; Manufacturer Part Number: RC0201FR-07910KL; Resistance: 910kR; Power Rating: 50mW; Voltage Rating: 25V; Temperature Coefficient: 200ppm/°C; Value: 910k; Supplier 1: Digi-Key; Supplier Part Number 1: YAG2840CT-ND; RoHS: Yes; Category: Chip SMD Resistors; Stock 1: 16990; Pricing 1: 1=0,10000, 10=0,04200, 100=0,01700, 1000=0,00765, 2500=0,00664, 5000=0,00548 (USD); Case/Package: 0201; Case Code (Imperial): 0201; Case Code (Metric): 0603; Min Operating Temperature: -55°C; Max Operating Temperature: 125°C; Tolerance: 1%; Packaging: Tape and Reel; Resistor Type: Thick Film; Number of Terminations: 2; Termination: SMD/SMT; Max Power Dissipation: 50mW; Features: Moisture Resistant; Series: RC; Construction: Rectangular; Length: 0.6mm; Width: 0.012inch; Height: 0.01inch; Depth: 0.3mm; Military Standard: Not; RoHS Compliant: Yes; ComponentLink1URL: http://www.mouser.com/ds/2/447/RC0201-559633.pdf?src-supplier=Mouser; ComponentLink1Description: http://www.mouser.com/ds/2/447/RC0201-559633.pdf?src-supplier=Mouser; ComponentLink2URL: http://www.yageo.com.tw/exep/pages/download/literatures/PYu-R_INT-thick_7.pdf?src-supplier=Digi-Key; ComponentLink2Description: http://www.yageo.com.tw/exep/pages/download/literatures/PYu-R_INT-thick_7.pdf?src-supplier=Digi-Key; ComponentLink3URL: http://www.yageo.com/documents/recent/PYu-RC_Group_51_RoHS_L_9.pdf?src-supplier=Digi-Key; ComponentLink3Description: http://www.yageo.com/documents/recent/PYu-RC_Group_51_RoHS_L_9.pdf?src-supplier=Digi-Key; ComponentLink4URL: http://components.arrow.com/part/dataview/0323_03295085?src-supplier=Arrow+Europe; ComponentLink4Description: http://components.arrow.com/part/dataview/0323_03295085?src-supplier=Arrow+Europe
footprint RESC1005X40N (Chip Resistor, EIA 0402, Metric 1005, Body 1.0x0.5mm, IPC Medium Density)
footprint RESC3216X70N
footprint RESC1005X40N (Chip Resistor, EIA 0402, Metric 1005, Body 1.0x0.5mm, IPC Medium Density)
footprint RESC1608X50N (Chip Resistor, EIA 0603, Metric 1608, Body 1.6x0.8mm, IPC Medium Density)
footprint RESC0603X26N
pins: 1, 2

## Schottky
designator D?, comment NSR01L30NXT5G
ON SEMICONDUCTOR - NSR01L30NXT5G - Small Signal Schottky Diode, Single, 30 V, 100 mA, 530 mV, 4 A, 150 °C; Forward Voltage: 530mV; Forward Current: 100mA; Max Repetitive Reverse Voltage (Vrrm): 30V; Max Forward Surge Current (Ifsm): 4A; Max Reverse Current: 3uA; Supplier 1: Digi-Key; Supplier Part Number 1: NSR01L30NXT5GOSCT-ND; Manufacturer: ON Semiconductor; Manufacturer Part Number: NSR01L30NXT5G; RoHS: Yes; Category: Schottky Diodes; Stock 1: 38186; Pricing 1: 1=0,43000, 10=0,32300, 100=0,20140, 500=0,13780, 1000=0,10600, 2000=0,09540 (USD); Case/Package: 0201; Number of Pins: 2; Max Operating Temperature: 150°C; Package Quantity: 5000; Packaging: Tape and Reel; Series: -; Average Rectified Current: 100mA; Peak Non-Repetitive Surge Current: 4A; Element Configuration: Single; Max Reverse Voltage (DC): 30V; Radiation Hardening: No; RoHS Compliant: Yes; REACH SVHC: No SVHC; Lead Free: Lead Free; ComponentLink1URL: https://datasheet.ciiva.com/4714/nsr01l30-d-118977-4714835.pdf?src-supplier=Mouser; ComponentLink1Description: https://datasheet.ciiva.com/4714/nsr01l30-d-118977-4714835.pdf?src-supplier=Mouser; ComponentLink2URL: https://datasheet.ciiva.com/22659/nsr01l30-d-22659110.pdf?src-supplier=Element14; ComponentLink2Description: https://datasheet.ciiva.com/22659/nsr01l30-d-22659110.pdf?src-supplier=Element14; ComponentLink3URL: https://datasheet.ciiva.com/8293/nsr01l30-d-8293831.pdf?src-supplier=Avnet; ComponentLink3Description: https://datasheet.ciiva.com/8293/nsr01l30-d-8293831.pdf?src-supplier=Avnet; ComponentLink4URL: https://datasheet.ciiva.com/6381/nsr01l30-d-6381900.pdf?src-supplier=Digi-Key; ComponentLink4Description: https://datasheet.ciiva.com/6381/nsr01l30-d-6381900.pdf?src-supplier=Digi-Key
footprint NSR01L30NXT5G
pins: 1 A, 2 K

## SMT-0340-T-R
designator LS?
Loudspeaker or Buzzer; Manufacturer: PUI Audio; Datasheet Link: http://www.puiaudio.com/pdf/SMT-0340-T-R.pdf; Height: 2mm; Manufacturer_Part_Number: SMT-0340-T-R; Mouser Part Number: 665-SMT-0340-T-R; Mouser Price/Stock: https://www.mouser.co.uk/ProductDetail/PUI-Audio/SMT-0340-T-R?qs=DPoM0jnrROXLQhGRbnNzhA%3D%3D; Manufacturer Part Number: SMT-0340-T-R; Supplier 1: Digi-Key; Supplier Part Number 1: 668-SMT-0340-T-RCT-ND
footprint SMT0340TR
pins: 1 -, 2 +

## SP0505BAJTG
designator U?, comment TPD5E003DPFR
ESD Suppressors Five CH Space Saving ESD Protect Device; Manufacturer: Texas Instruments; Capacitance: 8.4pF; Operating Supply Voltage: 5.5V; Direction: Unidirectional; Number of Unidirectional Channels: 5; Number of Bidirectional Channels: 4; Reverse Standoff Voltage: 5V; Min Breakdown Voltage: 6V; Clamping Voltage: 15.6V; Peak Pulse Power: 40W; Power Line Protection: No; Peak Pulse Current: 10A; Diode Type: ZENER; Supplier 1: Digi-Key; Supplier Part Number 1: 296-43577-1-ND; Manufacturer Part Number: TPD5E003DPFR; RoHS: Yes; Category: Integrated Circuits (ICs); Stock 1: 1694; Pricing 1: 1=0,65000, 10=0,56000, 100=0,41850, 500=0,32882, 1000=0,25408, 2000=0,24675 (USD); Mount: Surface Mount; Number of Pins: 6; Min Operating Temperature: -40°C; Max Operating Temperature: 125°C; Package Quantity: 5000; Packaging: Tape and Reel; Breakdown Voltage: 6V; Number of Channels: 5; Termination: SMD/SMT; Polarity: Unidirectional; Working Voltage: 5V; Max Power Dissipation: 40W; Resistor Type: Zener; Series: -; Lead Free: Lead Free; RoHS Compliant: Yes; ComponentLink1URL: https://datasheet.ciiva.com/6577/tpd5e003-6577651.pdf?src-supplier=Digi-Key; ComponentLink1Description: https://datasheet.ciiva.com/6577/tpd5e003-6577651.pdf?src-supplier=Digi-Key
footprint SON35P100X100X40-6N
pins: 1 C, 2 A, 3 C, 4 C, 5 C, 6 C

## SW-PB
designator S?, comment KMS231GLFS
Switch Tactile N.O. SPST Rectangular Button Gull Wing 0.05A 32VDC 1VA 100000Cycles 3N SMD T/R; Manufacturer: ITT C&K; Current Rating: 50mA; Insulation Resistance: 1GR; Contact Resistance: 100mR; Voltage Rating (DC): 32V; Power Rating: 1W; Illumination Type: Non-Illuminated,Illuminated; Direction: RIGHT; Switch Travel: 0.3mm; Switch Function: Off-Mom; Actuator Type: PLUNGER; Actuator Length: 0.75mm; Ratings: IP40; Supplier 1: Digi-Key; Supplier Part Number 1: 401-1266-1-ND; Manufacturer Part Number: KMS231GLFS; RoHS: Yes; Category: Tactile Switches; Pricing 1: 1=0,49000, 10=0,47400, 25=0,45640, 100=0,39480, 250=0,35972, 500=0,33342, 1000=0,29832 (USD); Mount: Surface Mount; Contact Material: Silver; Contact Plating: Silver; Mechanical Life: 100000Cycles; Min Operating Temperature: -40°C; Max Operating Temperature: 85°C; Packaging: Tape and Reel; Package Quantity: 3000; Termination: Gull Wing; Orientation: Right Angle; Series: KMS; Throw Configuration: SPST; Operating Force: 3N; Max Current Rating: 50mA; Max Voltage Rating (DC): 32V; Contact Current Rating: 50mA; Length: 3.55mm; Width: 4.6mm; Depth: 4.6mm; Size: 2.8mm; Radiation Hardening: No; REACH SVHC: No SVHC; Lead Free: Lead Free; RoHS Compliant: Yes; ComponentLink1URL: https://datasheet.ciiva.com/7986/1754071-7986966.pdf?src-supplier=Element14; ComponentLink1Description: https://datasheet.ciiva.com/7986/1754071-7986966.pdf?src-supplier=Element14; ComponentLink2URL: https://datasheet.ciiva.com/16388/kms231glfs-16388616.pdf?src-supplier=Future+Electronics; ComponentLink2Description: https://datasheet.ciiva.com/16388/kms231glfs-16388616.pdf?src-supplier=Future+Electronics; ComponentLink3URL: https://datasheet.ciiva.com/8168/kms-8168505.pdf?src-supplier=Avnet; ComponentLink3Description: https://datasheet.ciiva.com/8168/kms-8168505.pdf?src-supplier=Avnet; ComponentLink4URL: https://datasheet.ciiva.com/2901/kms-2901787.pdf?src-supplier=Digi-Key; ComponentLink4Description: https://datasheet.ciiva.com/2901/kms-2901787.pdf?src-supplier=Digi-Key; ComponentLink5URL: https://datasheet.ciiva.com/2901/kms-2901788.pdf?src-supplier=Digi-Key; ComponentLink5Description: https://datasheet.ciiva.com/2901/kms-2901788.pdf?src-supplier=Digi-Key; ComponentLink6URL: https://datasheet.ciiva.com/2901/kms-2901789.pdf?src-supplier=Digi-Key; ComponentLink6Description: https://datasheet.ciiva.com/2901/kms-2901789.pdf?src-supplier=Digi-Key; ComponentLink7URL: https://datasheet.ciiva.com/5283/kms-13aug12-34537-5283597.pdf?src-supplier=Mouser; ComponentLink7Description: https://datasheet.ciiva.com/5283/kms-13aug12-34537-5283597.pdf?src-supplier=Mouser; ComponentLink8URL: https://datasheet.ciiva.com/5684/1754071-5684445.pdf?src-supplier=Farnell; ComponentLink8Description: https://datasheet.ciiva.com/5684/1754071-5684445.pdf?src-supplier=Farnell
footprint KMS231GLFS (Footprint not found)
pins: 1, 2

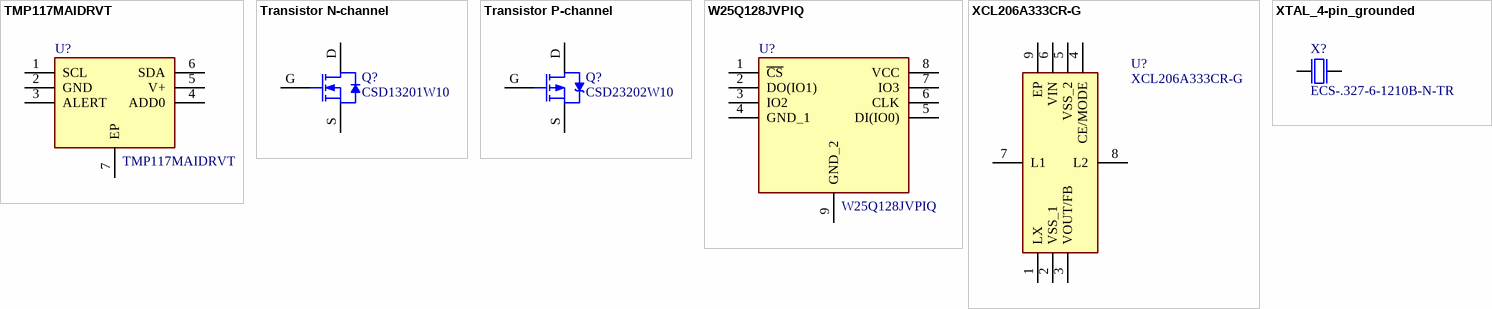
[diagram p1: symbols TMP117MAIDRVT to XTAL_4-pin_grounded]

## TMP117MAIDRVT
designator U?
±0.1°C accurate digital temperature sensor with integrated NV memory 6-WSON 0 to 85; Manufacturer: Texas Instruments; Output Type: I2C; Resolution: 16b; Supplier 1: Digi-Key; Supplier Part Number 1: 296-52215-1-ND; Manufacturer Part Number: TMP117MAIDRVT; RoHS: Yes; Category: Integrated Circuits (ICs); Stock 1: 4230; Pricing 1: 1=4,89000, 5=4,31400, 10=3,81100, 25=3,09160, 50=2,73220, 100=2,66030 (USD); Mount: Surface Mount; Min Operating Temperature: -55°C; Max Operating Temperature: 150°C; Packaging: Tape and Reel; RoHS Compliant: Yes; ComponentLink1URL: http://www.ti.com/lit/gpn/tmp117?src-supplier=Digi-Key; ComponentLink1Description: http://www.ti.com/lit/gpn/tmp117?src-supplier=Digi-Key
footprint SON65P200X200X80-7N
pins: 1 SCL, 2 GND, 3 ALERT, 4 ADD0, 5 V+, 6 SDA, 7 EP

## Transistor N-channel
designator Q?, comment CSD13201W10
12V, N ch NexFET MOSFET™, single WLP 1.0x1.0, 34mOhm 4-DSBGA -55 to 150; Manufacturer: Texas Instruments; Rds On Max: 34mR; Input Capacitance: 462pF; Continuous Drain Current (ID): 1.6A; Max Power Dissipation: 1.2W; Rise Time: 5.9ns; Number of Elements: 1; Turn-On Delay Time: 3.9ns; Turn-Off Delay Time: 14.4ns; Fall Time: 9.7ns; Gate to Source Voltage (Vgs): 8V; Supplier 1: Digi-Key; Supplier Part Number 1: 296-41412-1-ND; Manufacturer Part Number: CSD13201W10; RoHS: Yes; Category: MOSFETs; Stock 1: 204100; Pricing 1: 1=0,52000, 10=0,42400, 100=0,28860, 500=0,21648, 1000=0,16236 (USD); Mount: Surface Mount; Number of Pins: 4; Contact Plating: Copper,Tin,Silver; Min Operating Temperature: -55°C; Max Operating Temperature: 150°C; Package Quantity: 3000; Packaging: Tape and Reel; Drain to Source Voltage (Vdss): 12V; Power Dissipation: 1.2W; Element Configuration: Single; Number of Channels: 1; Drain to Source Breakdown Voltage: 12V; Drain to Source Resistance: 34mR; Lead Free: Lead Free; RoHS Compliant: Yes; ComponentLink1URL: https://datasheet.ciiva.com/30021/csd13201w10-30021961.pdf?src-supplier=Avnet; ComponentLink1Description: https://datasheet.ciiva.com/30021/csd13201w10-30021961.pdf?src-supplier=Avnet
footprint 4-UFBGA
footprint CSD13201W10
pins: D, G, S

## Transistor P-channel
designator Q?, comment CSD23202W10
-12V, P ch NexFET MOSFET™, single WLP 1.0x1.0, 53mOhm 4-DSBGA; Manufacturer: Texas Instruments; Drain to Source Voltage (Vdss): 12V; Continuous Drain Current (ID): 2.2A; Rds On Max: 53mR; Input Capacitance: 512pF; Max Power Dissipation: 1W; Gate to Source Voltage (Vgs): 6V; Number of Channels: 1; Drain to Source Resistance: 44mR; Fall Time: 21ns; Rise Time: 4ns; Turn-Off Delay Time: 58ns; Turn-On Delay Time: 9ns; Supplier 1: Digi-Key; Supplier Part Number 1: 296-40000-1-ND; Manufacturer Part Number: CSD23202W10; RoHS: Yes; Category: Integrated Circuits (ICs); Stock 1: 87297; Pricing 1: 1=0,43000, 10=0,37100, 100=0,27720, 500=0,21780, 1000=0,16830 (USD); Mount: Surface Mount; Number of Pins: 4; Min Operating Temperature: -55°C; Max Operating Temperature: 150°C; Packaging: Tape and Reel; Drain to Source Breakdown Voltage: -12V; Package Quantity: 3000; Element Configuration: Single; Number of Elements: 1; Power Dissipation: 1W; Lead Free: Lead Free; RoHS Compliant: Yes; ComponentLink1URL: http://components.arrow.com/part/dataview/69249902S1040162N7713?src-supplier=Arrow+Electronics; ComponentLink1Description: http://components.arrow.com/part/dataview/69249902S1040162N7713?src-supplier=Arrow+Electronics; ComponentLink2URL: http://www.ti.com/lit/gpn/csd23202w10?src-supplier=Mouser; ComponentLink2Description: http://www.ti.com/lit/gpn/csd23202w10?src-supplier=Mouser; ComponentLink3URL: http://www.ti.com/lit/ds/symlink/csd23202w10.pdf?src-supplier=Digi-Key; ComponentLink3Description: http://www.ti.com/lit/ds/symlink/csd23202w10.pdf?src-supplier=Digi-Key; ComponentLink4URL: http://www.ti.com/general/docs/lit/getliterature.tsp?genericPartNumber=CSD23202W10&&fileType=pdf&src-supplier=Avnet; ComponentLink4Description: http://www.ti.com/general/docs/lit/getliterature.tsp?genericPartNumber=CSD23202W10&&fileType=pdf&src-supplier=Avnet
footprint BGA4C50P2X2_88X88X62N
footprint 4-UFBGA
pins: D, G, S

## W25Q128JVPIQ
designator U?
NOR Flash Serial (SPI, Dual SPI, Quad SPI) 3V/3.3V 128M-bit 16M x 8 6ns 8-Pin WSON EP T/R/Tray/Tube; Manufacturer: Winbond; Memory Type: Non-Volatile,FLASH; Frequency: 133MHz; Memory Size: 128Mb; Supplier 1: Digi-Key; Supplier Part Number 1: W25Q128JVPIQ-ND; Manufacturer Part Number: W25Q128JVPIQ; RoHS: Yes; Category: Flash; Stock 1: 2886; Pricing 1: 1=1,97000, 10=1,79800, 25=1,74960, 50=1,74080, 100=1,55600, 250=1,55152, 500=1,52810, 1000=1,46322, 5000=1,36231 (USD); Mount: Surface Mount; Min Operating Temperature: -40°C; Max Operating Temperature: 85°C; Packaging: Rail/Tube; RoHS Compliant: Yes; ComponentLink1URL: http://www.winbond.com/resource-files/w25q128jv%20revf%2003272018%20plus.pdf?src-supplier=Digi-Key; ComponentLink1Description: http://www.winbond.com/resource-files/w25q128jv%20revf%2003272018%20plus.pdf?src-supplier=Digi-Key
footprint SON127P500X600X80-9N (Footprint not found)
pins: 1 ~{CS}, 2 DO(IO1), 3 IO2, 4 GND_1, 5 DI(IO0), 6 CLK, 7 IO3, 8 VCC, 9 GND_2

## XCL206A333CR-G
designator U?
Conv DC-DC Single Step Down 2V to 6V 6-Pin CL-2025-02 T/R; Manufacturer_Name: Torex; Number of Outputs: 1; Voltage - Output 1: 3.3V; Max Output Current: 600mA; Efficiency: 90%; Datasheet Link: https://www.torexsemi.com/file/xcl206/XCL205-XCL206-XCL207.pdf; Height: 1.04mm; Manufacturer_Part_Number: XCL206A333CR-G; Mouser Part Number: 865-XCL206A333CR-G; Mouser Price/Stock: https://www.mouser.co.uk/ProductDetail/Torex-Semiconductor/XCL206A333CR-G/?qs=AsjdqWjXhJ9IhOCsNg2OkA%3D%3D; Supplier 1: Digi-Key; Supplier Part Number 1: 893-1403-1-ND; Manufacturer: Torex; Manufacturer Part Number: XCL206A333CR-G; RoHS: Yes; Category: Board Mount Modules; Stock 1: 3329; Pricing 1: 1=2,74000, 10=2,45800, 25=2,31880, 100=1,97560, 250=1,85500, 500=1,62312, 1000=1,34488 (USD); Mount: Surface Mount; Min Operating Temperature: -40°C; Max Operating Temperature: 85°C; Packaging: Cut Tape; Min Input Voltage: 2V; Max Input Voltage: 6V; RoHS Compliant: Yes; ComponentLink1URL: https://www.torexsemi.com/file/xcl206/XCL205-XCL206-XL207.pdf?src-supplier=Digi-Key; ComponentLink1Description: https://www.torexsemi.com/file/xcl206/XCL205-XCL206-XL207.pdf?src-supplier=Digi-Key
footprint XCL206A333CRG
pins: 1 LX, 2 VSS_1, 3 VOUT/FB, 4 CE/MODE, 5 VSS_2, 6 VIN, 7 L1, 8 L2, 9 EP

## XTAL_4-pin_grounded
designator X?, comment ECS-.327-6-1210B-N-TR
Crystal 32.7680Khz 6Pf Smd / Tape & Reel (Tr) Rohs Compliant: Yes; Manufacturer: ECS International; Supplier 1: Digi-Key; Supplier Part Number 1: 50-ECS-.327-6-1210B-N-CT-ND; Manufacturer Part Number: ECS-.327-6-1210B-N-TR; RoHS: Yes; Stock 1: 200; Pricing 1: 1=1,63000, 10=1,56100, 50=1,52460, 100=1,30680, 500=1,27050, 1000=1,07085, 2500=1,01640 (USD)
footprint XTAL_ECS-.327-7-1210-TR
pins: 1 inp, 2 out